# Altium footprint library Tool.PcbLib: 86 footprints (part 2 of 6)
Each footprint in its own frame and in the unit in brackets; x right, y up, seen from the top. Pads: shape width x height; smd on the part's side, far side on the other; paste and mask are expansions set on the pad; w line width, h text height; cw(c..) or ccw(c..) is an arc to the next point about the centre after c.
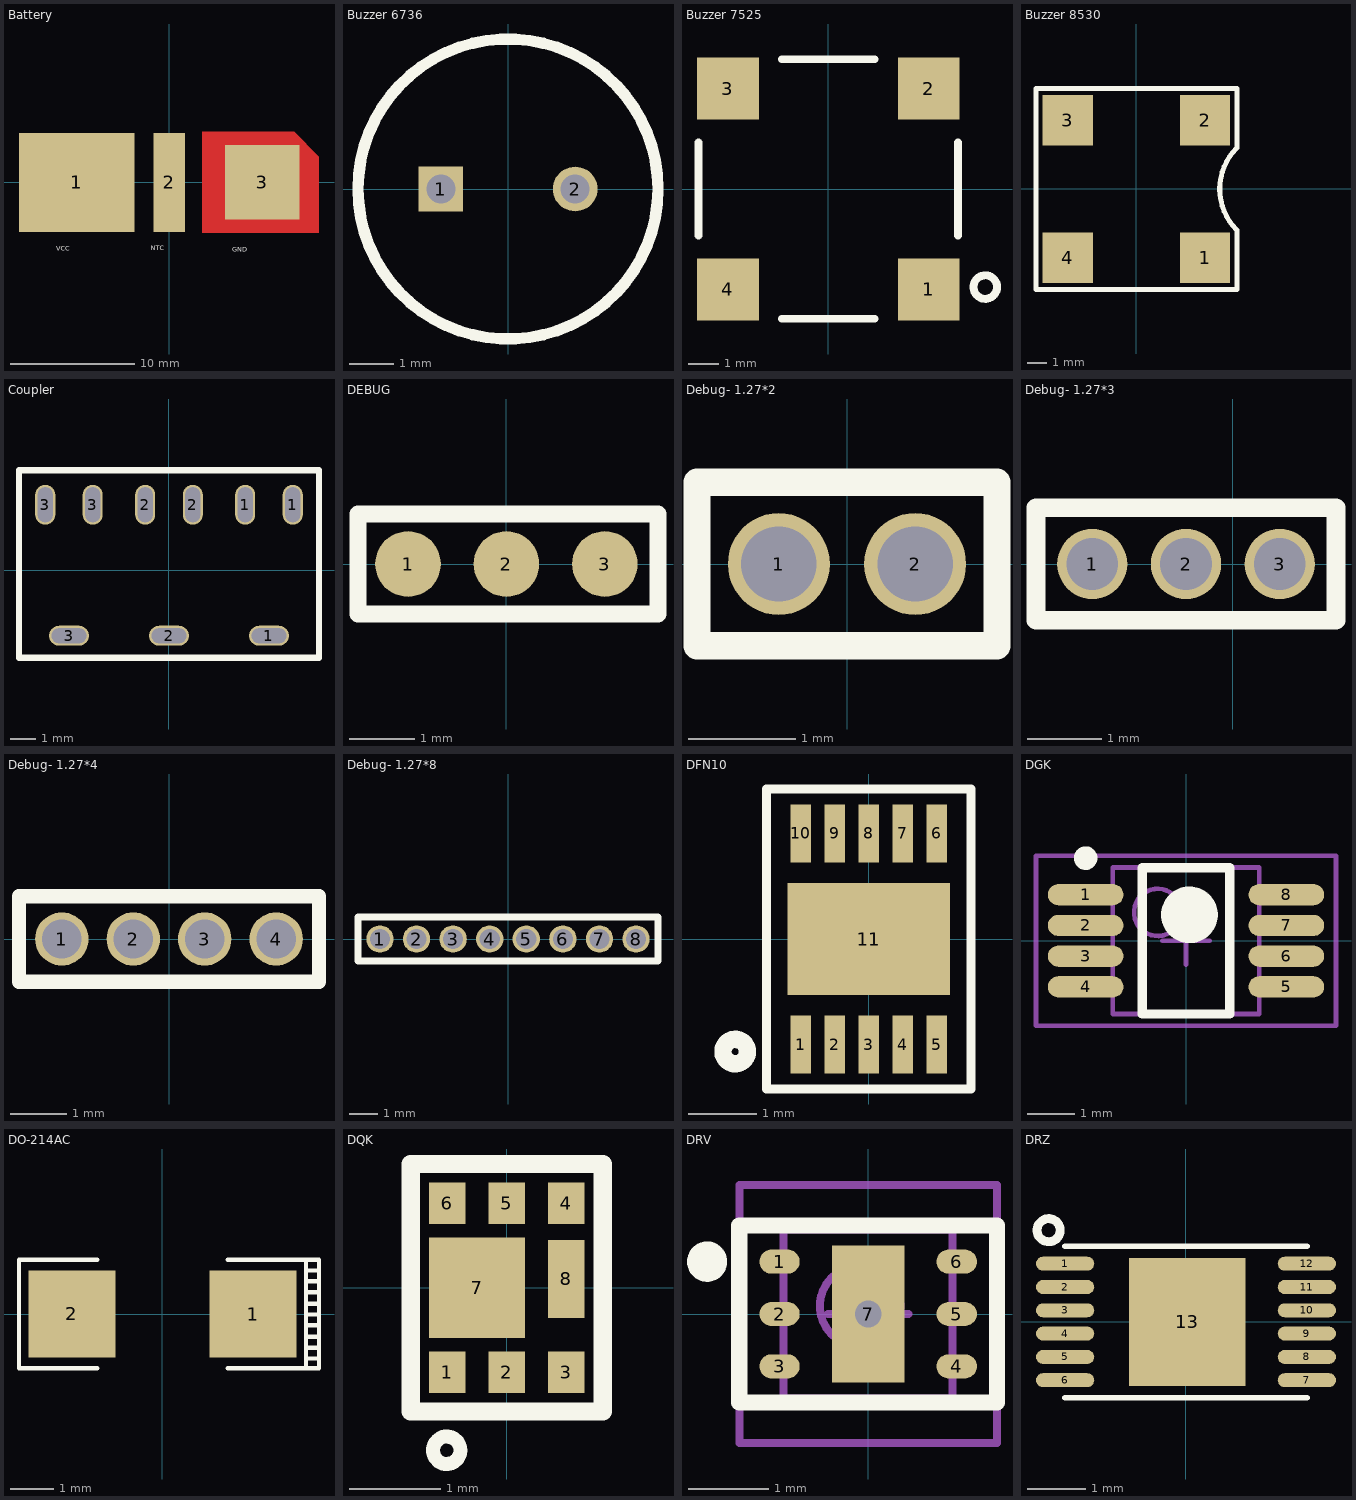
[diagram p1: the footprints below, top view; thin cyan lines are the x and y axes]

## Battery [mm]
pads (3):
  rect 9.3x8 smd: 1(-7.485,0)
  rect 2.54x8 smd: 2(0,0)
  rect 6x6 smd: 3(7.485,0)
Top Layer:
  region: 2.667,-4.064 12.065,-4.064 12.065,2.064 10.065,4.064 2.667,4.064
Top Overlay:
  text "VCC" at -9.144,-5.632 h0.64
  text "NTC" at -1.524,-5.6 h0.64
  text "GND" at 5.08,-5.719 h0.64
Top Paste:
  region: 2.667,-4.064 12.065,-4.064 12.065,2.064 10.065,4.064 2.667,4.064
Top Solder:
  region: 2.667,-4.064 12.065,-4.064 12.065,2.064 10.065,4.064 2.667,4.064

## Buzzer 6736 [mm]
pads (2):
  rect 1x1 hole 0.65: 1(-1.5,0)
  round 1 hole 0.65: 2(1.5,0)
Top Overlay:
  circle w0.254: c0,0 r3.35
3D body: height 3.6, standoff 0, extent -3.477,-3.477 3.477,3.477

## Buzzer 7525 [mm]
pads (4):
  rect 2x2 smd: 1(3.25,-3.25) 2(3.25,3.25) 3(-3.25,3.25) 4(-3.25,-3.25)
Top Overlay:
  circle w0.254: c5.08,-3.175 r0.381
  lines w0.254: -4.2,-1.5 -4.2,1.5 ; -1.5,-4.2 1.5,-4.2 ; -1.5,4.2 1.5,4.2 ; 4.2,-1.5 4.2,1.5

## Buzzer 8530 [mm]
pads (4):
  rect 2.55x2.55 smd: 1(3.475,-3.475) 2(3.475,3.475) 3(-3.475,3.475) 4(-3.475,-3.475)
Top Overlay:
  lines w0.254: -5.08,-5.08 -5.08,5.08 5.08,5.08 5.08,2.08 ccw(c7.16,0) 5.08,-2.08 5.08,-5.08 -5.08,-5.08

## Coupler [mm]
pads (9):
  oval 0.8x1.6 hole 0.6 slot 1.4 at 90 deg: 1(3.05,2.62) 1(4.95,2.62) 2(-0.95,2.62) 2(0.95,2.62) 3(-4.95,2.62) 3(-3.05,2.62)
  oval 1.6x0.8 hole 0.6 slot 1.4 at 0 deg: 1(4,-2.62) 2(0,-2.62) 3(-4,-2.62)
Top Overlay:
  lines w0.254: -6,-3.5 -6,4 6,4 6,-3.5 -5.938,-3.5
3D body: height 4, standoff 0, extent -6.102,-3.598 6.102,4.106

## DEBUG [mm]
pads (3):
  round 1 smd: 1(-1.5,0) 2(0,0) 3(1.5,0)
Top Overlay:
  lines w0.254: -2.262,-0.762 2.31,-0.762 2.31,0.762 -2.262,0.762 -2.262,-0.762
3D body: height 0.1, standoff 0, extent -2.102,-0.602 2.102,0.602

## Debug- 1.27*2 [mm]
pads (2):
  round 0.95 hole 0.7: 1(-0.635,0) 2(0.635,0)
Top Overlay:
  lines w0.254: -1.397,-0.762 1.397,-0.762 1.397,0.762 -1.397,0.762 -1.397,-0.762
3D body: height 0, standoff 0, extent -1.212,-0.577 1.212,0.577

## Debug- 1.27*3 [mm]
pads (3):
  round 0.95 hole 0.7: 1(-1.905,0) 2(-0.635,0) 3(0.635,0)
Top Overlay:
  lines w0.254: -2.667,-0.762 -2.667,0.762 1.397,0.762 1.397,-0.762 -2.667,-0.762
3D body: height 0, standoff 0, extent -2.482,-0.577 1.212,0.577

## Debug- 1.27*4 [mm]
pads (4):
  round 0.95 hole 0.7: 1(-1.905,0) 2(-0.635,0) 3(0.635,0) 4(1.905,0)
Top Overlay:
  lines w0.254: -2.667,-0.762 2.667,-0.762 2.667,0.762 -2.667,0.762 -2.667,-0.762

## Debug- 1.27*8 [mm]
pads (8):
  round 0.95 hole 0.7: 1(-4.445,0) 2(-3.175,0) 3(-1.905,0) 4(-0.635,0) 5(0.635,0) 6(1.905,0) 7(3.175,0) 8(4.445,0)
Top Overlay:
  lines w0.254: -5.207,-0.762 5.207,-0.762 5.207,0.762 -5.207,0.762 -5.207,-0.762

## DFN10 [mm]
pads (11):
  rect 0.3x0.85 smd: 1(-1,-1.55) 2(-0.5,-1.55) 3(0,-1.55) 4(0.5,-1.55) 5(1,-1.55) 6(1,1.55) 7(0.5,1.55) 8(0,1.55) 9(-0.5,1.55) 10(-1,1.55)
  rect 2.38x1.65 smd: 11(0,0)
Top Overlay:
  circle w0.254: c-1.958,-1.651 r0.18
  lines w0.127: -1.5,-2.2 -1.5,2.2 1.5,2.2 1.5,-2.2 -1.5,-2.2

## DGK [mm] "TSOP, 8-Leads, Body 3.1x3.1mm (max), Pitch 0.65mm, IPC Medium Density"
height 1.1
pads (8):
  oval 1.6x0.45 smd: 1(-2.125,0.975) 2(-2.125,0.325) 3(-2.125,-0.325) 4(-2.125,-0.975) 5(2.125,-0.975) 6(2.125,-0.325) 7(2.125,0.325) 8(2.125,0.975)
Top Overlay:
  circle w0.6: c0.075,0.55 r0.3
  circle w0.25: c-2.125,1.75 r0.125
  lines w0.2: -0.925,-1.55 0.925,-1.55 0.925,1.55 -0.925,1.55 -0.925,-1.55
Mechanical 13:
  circle w0.1: c-0.6,0.6 r0.5
  lines w0.1: -1.55,-1.55 1.55,-1.55 1.55,1.55 -1.55,1.55 -1.55,-1.55
Mechanical 15:
  lines w0.1: -0.5,0 0.5,0 ; 0,-0.5 0,0.5 ; -3.175,-1.8 3.175,-1.8 3.175,1.8 -3.175,1.8 -3.175,-1.8
3D body: height 1.1, standoff 0.05, extent -1.55,-1.55 1.55,1.55

## DO-214AC [mm]
pads (2):
  rect 2x2 smd: 1(2.085,0) 2(-2.085,0)
Top Overlay:
  lines w0.1: -1.5,-1.25 -3.3,-1.25 -3.3,1.25 -1.5,1.25 ; 1.5,-1.25 3.6,-1.25 3.6,1.25 1.5,1.25 ; 3.3,-1.25 3.3,1.25
  lines w0.102: 3.302,-1.024 3.6,-1.024 ; 3.302,-0.774 3.6,-0.774 ; 3.302,-0.524 3.6,-0.524 ; 3.302,-0.262 3.6,-0.262 ; 3.302,-0.012 3.6,-0.012 ; 3.302,0.238 3.6,0.238 ; 3.302,0.5 3.6,0.5 ; 3.302,0.75 3.6,0.75 ; 3.302,1 3.6,1
3D body: height 2.2, standoff 0, extent -3.187,-1.102 3.187,1.102

## DQK [mm]
pads (8):
  rect 0.4x0.455 smd: 1(-0.65,-0.923) 2(0,-0.923) 3(0.65,-0.923) 4(0.65,0.923) 5(0,0.923) 6(-0.65,0.923)
  rect 1.05x1.1 smd: 7(-0.325,0)
  rect 0.4x0.85 smd: 8(0.65,0.096)
Top Overlay:
  circle w0.152: c-0.658,-1.778 r0.15
  lines w0.2: -1.05,-1.354 -1.05,1.354 1.05,1.354 1.05,-1.354 -1.05,-1.354
3D body: height 0.8, standoff 0, extent -0.952,-1.252 0.952,1.252

## DRV [mm]
height 0.8
pads (7):
  oval 0.5x0.3 smd: 1(-1.1,0.65) 2(-1.1,0) 3(-1.1,-0.65) 4(1.1,-0.65) 5(1.1,0) 6(1.1,0.65)
  rect 0.9x1.7 smd: 7(0,0)
via 0,0 diameter 0.66 hole 0.33
Top Overlay:
  circle w0.25: c-2,0.65 r0.125
  lines w0.2: -1.6,-1.1 -1.6,1.1 1.6,1.1 1.6,-1.1 -1.6,-1.1
Mechanical 13:
  circle w0.1: c-0.1,0.1 r0.5
  lines w0.1: -1.05,-1.05 -1.05,1.05 1.05,1.05 1.05,-1.05 -1.05,-1.05
Mechanical 15:
  lines w0.1: -0.5,0 0.5,0 ; 0,-0.5 0,0.5 ; -1.6,-1.6 -1.6,1.6 1.6,1.6 1.6,-1.6 -1.6,-1.6
3D body: height 0.8, standoff 0.05, extent -1.05,-1.05 1.05,1.05

## DRZ [mm]
pads (13):
  oval 1x0.24 smd: 1(-2.075,1) 2(-2.075,0.6) 3(-2.075,0.2) 4(-2.075,-0.2) 5(-2.075,-0.6) 6(-2.075,-1) 7(2.075,-1) 8(2.075,-0.6) 9(2.075,-0.2) 10(2.075,0.2) 11(2.075,0.6) 12(2.075,1)
  rect 2x2.2 smd: 13(0.025,0)
Top Overlay:
  circle w0.152: c-2.357,1.575 r0.198
  lines w0.1: -2.075,-1.3 2.075,-1.3 ; -2.075,1.3 2.075,1.3
3D body: height 1, standoff 0, extent -2.677,-1.242 2.677,1.242